# Altium schematic symbol library I3G模块.SCHLIB: 9 symbols
Pins are listed as number, name and electrical type; pins without a type are passive.

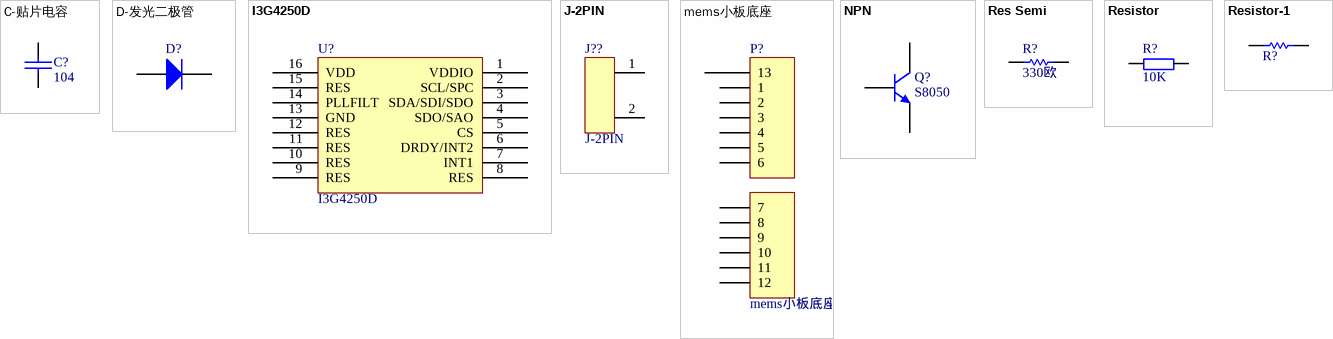
[diagram p0: symbols C-贴片电容 to Resistor-1]

## C-贴片电容
designator C?, comment 104
Capacitor
footprint c0603
footprint C-0805C
pins: 1, 2

## D-发光二极管
designator D?
Default Diode; Published: 8-Jun-2000; LatestRevisionDate: 17-Jul-2002; LatestRevisionNote: Re-released for DXP Platform.; PackageDocument: Sep-1996; PackageReference: SMC; Publisher: Altium Limited; Code_JEDEC: DO-214-AB
footprint D-0805D
footprint D-0603D
pins: 1, 2

## I3G4250D
designator U?
gyroscope
footprint I3G4250D
pins: 1 VDDIO, 2 SCL/SPC, 3 SDA/SDI/SDO, 4 SDO/SAO, 5 CS, 6 DRDY/INT2, 7 INT1, 8 RES, 9 RES, 10 RES, 11 RES, 12 RES, 13 GND, 14 PLLFILT, 15 RES, 16 VDD

## J-2PIN
designator J??
SOCKET
footprint 4.2mm电源接头-2P
pins: 1, 2

## mems小板底座
designator P?
footprint mems小板底座
pins: 1, 2, 3, 4, 5, 6, 7, 8, 9, 10, 11, 12, ?1 13

## NPN
designator Q?, comment S8050
NPN Bipolar Transistor; Published: 8-Jun-2000; LatestRevisionDate: 17-Jul-2002; LatestRevisionNote: Re-released for DXP Platform.; PackageReference: TO-226; Publisher: Altium Limited; Code_JEDEC: TO-226-AA
simulation model NPN
signal-integrity model NPN
footprint SOT-233-3
pins: 1 C, 2 B, 3 E

## Res Semi
designator R?, comment 330欧
Semiconductor Resistor; Published: 8-Jun-2000; LatestRevisionDate: 17-Jul-2002; LatestRevisionNote: Re-released for DXP Platform.; PackageReference: AXIAL-0.5; Publisher: Altium Limited; PackageDescription: Axial Device, Thru-Hole; 2 Leads; 0.5 in Pin Spacing; Value: 330欧
footprint AXIAL-0.5 (Axial Device, Thru-Hole; 2 Leads; 0.5 in Pin Spacing)
simulation model RES (Semiconductor Resistor)
signal-integrity model Res Semi
footprint 0603r
footprint 0603
footprint 0603R
footprint R-0603R
pins: 1, 2

## Resistor
designator R?, comment 10K
footprint 0805
footprint 0603P
footprint RL (10o/0.7uH)
footprint R16.0 (RX/1W)
footprint 1206
footprint 1210
footprint R20.0 (RX/2W)
footprint R10.16 (STD)
footprint RLN9 (13.5mm*5.1mm)
footprint R-0603R
pins: 1, 2

## Resistor-1
designator R?
Resistor; Published: 8-Jun-2000; LatestRevisionDate: 17-Jul-2002; LatestRevisionNote: Re-released for DXP Platform.; PackageReference: AXIAL-0.3; Publisher: Altium Limited; PackageDescription: Axial Device, Thru-Hole; 2 Leads; 0.3 in Pin Spacing
footprint R-0603R
footprint R-0603R
pins: 1, 2